# EAGLE library part DS3231 (library DS3231_RTC)
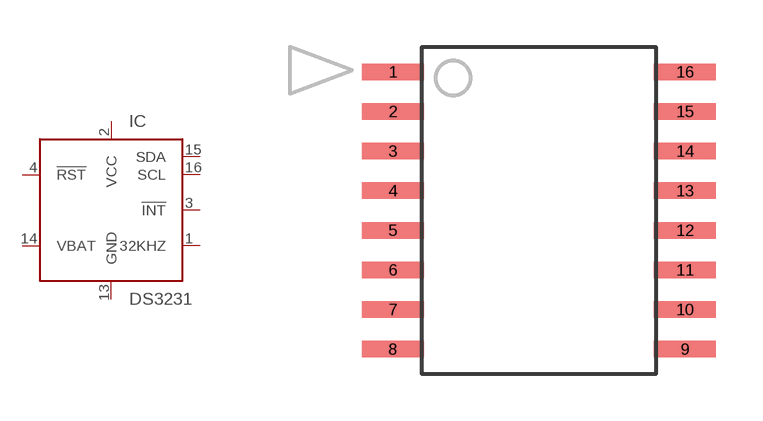
[diagram p0: symbol with the pads of SO16-W16#H2; footprint SO16-W16#H2]

Designator prefix IC

## DS3231S#, DS3231SN#  [SO16-W16#H2]
1  32KHZ  oc
2  VCC  pwr
3  !INT  oc
4  !RST  out
13  GND  pwr
14  VBAT  in
15  SDA  oc
16  SCL  in

## Footprint SO16-W16#H2 (pad centres in mm)
smd 1.98 x 0.53: 1 -4.685,4.445; 2 -4.685,3.175; 3 -4.685,1.905; 4 -4.685,0.635; 5 -4.685,-0.635; 6 -4.685,-1.905; 7 -4.685,-3.175; 8 -4.685,-4.445; 9 4.685,-4.445; 10 4.685,-3.175; 11 4.685,-1.905; 12 4.685,-0.635; 13 4.685,0.635; 14 4.685,1.905; 15 4.685,3.175; 16 4.685,4.445